# Altium integrated library Components - VND5050KTR-E.IntLib: 1 symbol
Pins are listed as number, name and electrical type; pins without a type are passive.

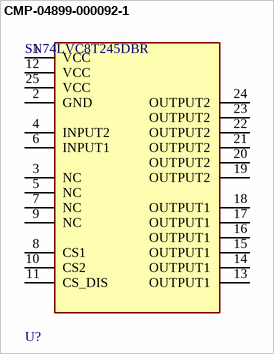
[diagram p0: symbol CMP-04899-000092-1]

## CMP-04899-000092-1
designator U?, comment SN74LVC8T245DBR
IC TRNSLTR BIDIRECTIONAL 24SSOP; Data Rate: 500Mbps; Number of Inputs: 8; Propagation Delay: 32.2ns; Polarity: Non-Inverting; High Level Output Current: -32mA; Logic Function: Translator; Output Current: 32mA; Turn-On Delay Time: 4.2ns; Number of Elements: 1; Min Supply Voltage: 1.65V; Quiescent Current: 15uA; Max Supply Voltage: 5.5V; Width: 5.3mm; Number of Pins: 24; Lead Free: Lead Free; Case/Package: SSOP; REACH SVHC: No SVHC; Number of Bits: 8; Mount: Surface Mount; Radiation Hardening: No; Contact Plating: Gold; Height: 1.95mm; Number of Outputs: 8; Packaging: Tape and Reel; Low Level Output Current: 32mA; Min Operating Temperature: -40°C; Max Operating Temperature: 85°C; Length: 8.2mm; Package Quantity: 1; RoHS Compliant: Yes; Number of Channels: 8; Direction: Bidirectional; Weight: 0.006081oz
footprint FP-DB0024A-IPC_C
footprint FP-DB0024A-IPC_B
footprint FP-DB0024A-IPC_A
pins: 1 VCC, 2 GND, 3 NC, 4 INPUT2, 5 NC, 6 INPUT1, 7 NC, 8 CS1, 9 NC, 10 CS2, 11 CS_DIS, 12 VCC, 13 OUTPUT1, 14 OUTPUT1, 15 OUTPUT1, 16 OUTPUT1, 17 OUTPUT1, 18 OUTPUT1, 19 OUTPUT2, 20 OUTPUT2, 21 OUTPUT2, 22 OUTPUT2, 23 OUTPUT2, 24 OUTPUT2, 25 VCC